# EAGLE library part AN7195K (library Audio-Power-amlifier V.2.0)
The AN7195K is an audio power IC developed for the sound output of car audio (dual 15 W). It is incorporating various protection circuits to protect the IC from destruction by GND-open short-circuit to GND and power supply surge which are the most important subjects of power IC protection, and the IC will largely
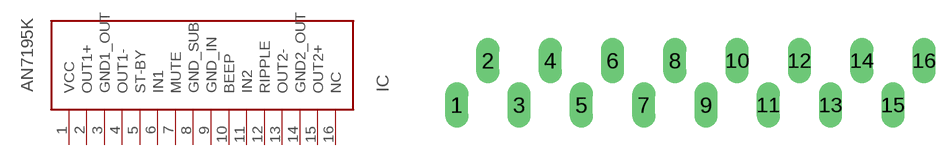
[diagram p136: symbol with the pads of HZIP016-P-0665B-1,788; footprint HZIP016-P-0665B-1,788]

Designator prefix IC

## AN7195K  [HZIP016-P-0665B-1,788]
1  VCC  pwr
2  OUT1+  out
3  GND1_OUT  pwr
4  OUT1-  out
5  ST-BY  in
6  IN1  in
7  MUTE  in
8  GND_SUB  pwr
9  GND_IN  pwr
10  BEEP  in
11  IN2  in
12  RIPPLE
13  OUT2-  out
14  GND2_OUT  pwr
15  OUT2+  out
16  NC  nc

## Footprint HZIP016-P-0665B-1,788 (pad centres in mm)
drill 0.8 long: 1 -13.334,0; 2 -11.556,2.539; 3 -9.778,-0.001; 4 -8,2.539; 5 -6.222,-0.001; 6 -4.444,2.539; 7 -2.666,0; 8 -0.888,2.539; 9 0.889,-0.001; 10 2.668,2.538; 11 4.446,0; 12 6.224,2.539; 13 8,-0.001; 14 9.78,2.539; 15 11.557,-0.001; 16 13.337,2.539